# EAGLE library part HEADER_8P (library Public)
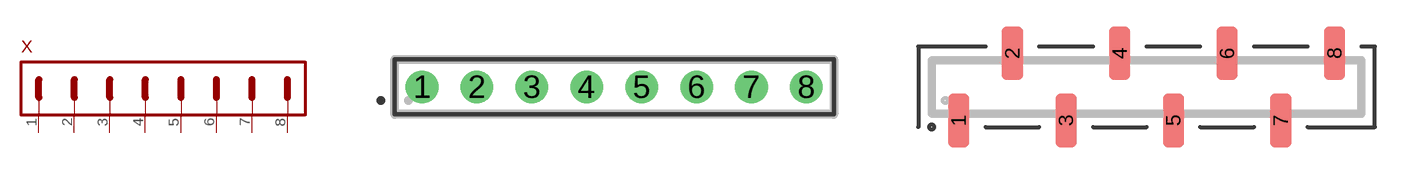
[diagram p6: symbol with the pads of HEADER_8P_1ROW_RM2.54MM_THT; footprints HEADER_8P_1ROW_RM2.54MM_THT, HEADER_8P_1ROW_RM2.54MM_SMD]

Designator prefix X

## HEADER_8P(RM2.54MM_1ROW_THT)  [HEADER_8P_1ROW_RM2.54MM_THT]
1  PIN1
2  PIN2
3  PIN3
4  PIN4
5  PIN5
6  PIN6
7  PIN7
8  PIN8

## HEADER_8P(RM2.54MM_1ROW_SMD)  [HEADER_8P_1ROW_RM2.54MM_SMD]
Pads as for HEADER_8P_1ROW_RM2.54MM_THT

## HEADER_8P(RM2.54MM_2ROW_THT)  [HEADER_8P_2ROW_RM2.54MM_THT]
Pads as for HEADER_8P_1ROW_RM2.54MM_THT

## HEADER_8P(JST-PHR)  [JST-PHR_8]
Pads as for HEADER_8P_1ROW_RM2.54MM_THT

## HEADER_8P(JST-XH)  [JST-XH_8]
Pads as for HEADER_8P_1ROW_RM2.54MM_THT

## HEADER_8P(BOXHEADER)  [BOXHEADER_8]
Pads as for HEADER_8P_1ROW_RM2.54MM_THT

## HEADER_8P(MOLEX_ONEBLADE_1MM) (ID: 214094-0080)  [MOLEX_ONEBLADE_1MM_214094-0080]
Pads as for HEADER_8P_1ROW_RM2.54MM_THT

## HEADER_8P(DEUTSCH-DT)  [DT15-08P]
Pads as for HEADER_8P_1ROW_RM2.54MM_THT

## HEADER_8P(MOLEX_MICROFIT_3.0_HORIZONTAL) (ID: 43045-0800)  [MOLEX_MICROFIT_3.0_43045-0800]
Pads as for HEADER_8P_1ROW_RM2.54MM_THT

## HEADER_8P(WR-PHD_2.0MM_BOTTOM_ENTRY) (ID: 62130821821)  [HEADER_8P_2ROW_RM2.00MM_SMD_WUERTH_62130821821]
Pads as for HEADER_8P_1ROW_RM2.54MM_THT

## HEADER_8P(RM2.00MM_2ROW_SMD_HORIZONTAL) (ID: 621308284521)  [HEADER_8P_2ROW_RM2.00MM_SMD_HORIZONTAL_WUERTH_621308284521]
Pads as for HEADER_8P_1ROW_RM2.54MM_THT

## HEADER_8P(MOLEX_MICROFIT_3.0_VERTICAL) (ID: 43045-0812)  [MOLEX_MICROFIT_3.0_43045-0812]
Pads as for HEADER_8P_1ROW_RM2.54MM_THT

## HEADER_8P(AMPSEAL-776276-X)  [AMPSEAL_776276-X]
Pads as for HEADER_8P_1ROW_RM2.54MM_THT

## Footprint HEADER_8P_1ROW_RM2.54MM_THT (pad centres in mm)
drill 1: 1 -8.89,0; 2 -6.35,0; 3 -3.81,0; 4 -1.27,0; 5 1.27,0; 6 3.81,0; 7 6.35,0; 8 8.89,0

## Footprint HEADER_8P_1ROW_RM2.54MM_SMD (pad centres in mm)
smd 1 x 2.54: 1 -8.89,-1.587; 2 -6.35,1.587; 3 -3.81,-1.587; 4 -1.27,1.587; 5 1.27,-1.587; 6 3.81,1.587; 7 6.35,-1.587; 8 8.89,1.587

## Footprint HEADER_8P_2ROW_RM2.54MM_THT (pad centres in mm)
drill 1: 1 -3.81,-1.27; 2 -3.81,1.27; 3 -1.27,-1.27; 4 -1.27,1.27; 5 1.27,-1.27; 6 1.27,1.27; 7 3.81,-1.27; 8 3.81,1.27

## Footprint JST-PHR_8 (pad centres in mm)
drill 0.813: 1 -7,0; 2 -5,0; 3 -3,0; 4 -1,0; 5 1,0; 6 3,0; 7 5,0; 8 7,0

## Footprint JST-XH_8 (pad centres in mm)
drill 1: 1 -8.89,0; 2 -6.35,0; 3 -3.81,0; 4 -1.27,0; 5 1.27,0; 6 3.81,0; 7 6.35,0; 8 8.89,0

## Footprint BOXHEADER_8 (pad centres in mm)
drill 1: 1 3.81,1.27; 2 3.81,-1.27; 3 1.27,1.27; 4 1.27,-1.27; 5 -1.27,1.27; 6 -1.27,-1.27; 7 -3.81,1.27; 8 -3.81,-1.27

## Footprint MOLEX_ONEBLADE_1MM_214094-0080 (pad centres in mm)
smd 0.6 x 1.5: 1 -3.5,-2.175; 2 -2.5,-2.175; 3 -1.5,-2.175; 4 -0.5,-2.175; 5 0.5,-2.175; 6 1.5,-2.175; 7 2.5,-2.175; 8 3.5,-2.175
smd 1.15 x 1.85: MECH1 -5.075,0; MECH2 5.075,0

## Footprint DT15-08P (pad centres in mm)
drill 1.88: 1 -4.56,-7.175; 2 -4.56,-2.73; 3 -4.56,2.73; 4 -4.56,7.175; 5 4.56,7.175; 6 4.56,2.73; 7 4.56,-2.73; 8 4.56,-7.175
hole 3.5 at -10.67,13.6
hole 3.5 at 10.67,13.6
hole 3.5 at -10.67,-13.6
hole 3.5 at 10.67,-13.6

## Footprint MOLEX_MICROFIT_3.0_43045-0800 (pad centres in mm)
drill 1.1: 1 4.5,-1.5; 2 1.5,-1.5; 3 -1.5,-1.5; 4 -4.5,-1.5; 5 4.5,1.5; 6 1.5,1.5; 7 -1.5,1.5; 8 -4.5,1.5
hole 3 at -2.35,-5.82
hole 3 at 2.35,-5.82

## Footprint HEADER_8P_2ROW_RM2.00MM_SMD_WUERTH_62130821821 (pad centres in mm)
smd 0.9 x 2: 1 -3,-2.55; 2 -3,2.55; 3 -1,-2.55; 4 -1,2.55; 5 1,-2.55; 6 1,2.55; 7 3,-2.55; 8 3,2.55
hole 0.8 at -3,1
hole 0.8 at -3,-1
hole 0.8 at -1,1
hole 0.8 at -1,-1
hole 0.8 at 1,1
hole 0.8 at 1,-1
hole 0.8 at 3,1
hole 0.8 at 3,-1

## Footprint HEADER_8P_2ROW_RM2.00MM_SMD_HORIZONTAL_WUERTH_621308284521 (pad centres in mm)
smd 0.9 x 2.03: 1 3,-1.71; 2 3,1.71; 3 1,-1.71; 4 1,1.71; 5 -1,-1.71; 6 -1,1.71; 7 -3,-1.71; 8 -3,1.71
hole 1.2 at 2,-4.87
hole 1.2 at -2,-4.87

## Footprint MOLEX_MICROFIT_3.0_43045-0812 (pad centres in mm)
drill 1.1: 1 4.5,-1.5; 2 1.5,-1.5; 3 -1.5,-1.5; 4 -4.5,-1.5; 5 4.5,1.5; 6 1.5,1.5; 7 -1.5,1.5; 8 -4.5,1.5
hole 1.1 at -7.5,2.44
hole 1.1 at 7.5,2.44

## Footprint AMPSEAL_776276-X (pad centres in mm)
drill 1.75: 1 -4,4; 2 0,4; 3 4,4; 4 -2,0; 5 2,0; 6 -4,-4; 7 0,-4; 8 4,-4
hole 2 at -13.7,10.8
hole 2 at 13.7,10.8
hole 2 at -15.2,-7.3
hole 2 at 15.2,-7.3